# Altium schematic symbol library SCH - MCU - STM32 - ST MICROELECTRONICS STM32F415OGYX WLCSP90.SchLib: 1 symbol
Pins are listed as number, name and electrical type; pins without a type are passive.

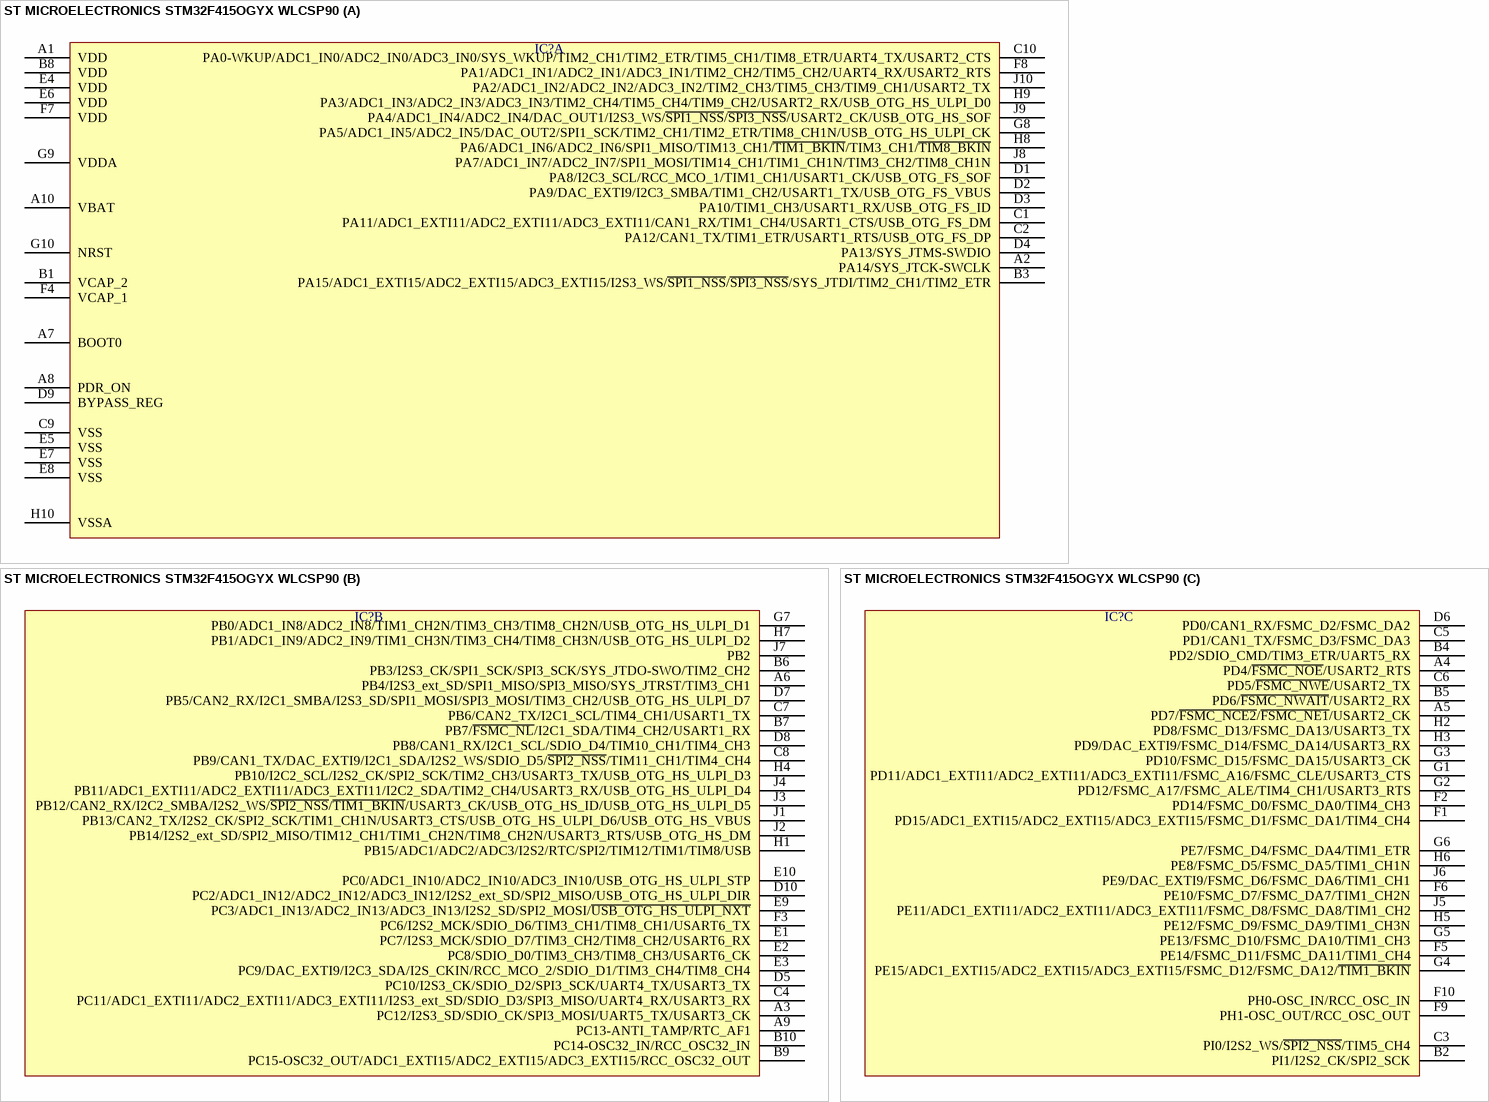
[diagram p0: symbol ST MICROELECTRONICS STM32F415OGYX WLCSP90]

## ST MICROELECTRONICS STM32F415OGYX WLCSP90
designator IC?  (value not drawn)
part A pins: A1 VDD, A2 PA14/SYS_JTCK-SWCLK, A7 BOOT0, A8 PDR_ON, A10 VBAT, B1 VCAP_2, B3 PA15/ADC1_EXTI15/ADC2_EXTI15/ADC3_EXTI15/I2S3_WS/~{SPI1_NSS}/~{SPI3_NSS}/SYS_JTDI/TIM2_CH1/TIM2_ETR, B8 VDD, C1 PA11/ADC1_EXTI11/ADC2_EXTI11/ADC3_EXTI11/CAN1_RX/TIM1_CH4/USART1_CTS/USB_OTG_FS_DM, C2 PA12/CAN1_TX/TIM1_ETR/USART1_RTS/USB_OTG_FS_DP, C9 VSS, C10 PA0-WKUP/ADC1_IN0/ADC2_IN0/ADC3_IN0/SYS_WKUP/TIM2_CH1/TIM2_ETR/TIM5_CH1/TIM8_ETR/UART4_TX/USART2_CTS, D1 PA8/I2C3_SCL/RCC_MCO_1/TIM1_CH1/USART1_CK/USB_OTG_FS_SOF, D2 PA9/DAC_EXTI9/I2C3_SMBA/TIM1_CH2/USART1_TX/USB_OTG_FS_VBUS, D3 PA10/TIM1_CH3/USART1_RX/USB_OTG_FS_ID, D4 PA13/SYS_JTMS-SWDIO, D9 BYPASS_REG, E4 VDD, E5 VSS, E6 VDD, E7 VSS, E8 VSS, F4 VCAP_1, F7 VDD, F8 PA1/ADC1_IN1/ADC2_IN1/ADC3_IN1/TIM2_CH2/TIM5_CH2/UART4_RX/USART2_RTS, G8 PA5/ADC1_IN5/ADC2_IN5/DAC_OUT2/SPI1_SCK/TIM2_CH1/TIM2_ETR/TIM8_CH1N/USB_OTG_HS_ULPI_CK, G9 VDDA, G10 NRST, H8 PA6/ADC1_IN6/ADC2_IN6/SPI1_MISO/TIM13_CH1/~{TIM1_BKIN}/TIM3_CH1/~{TIM8_BKIN}, H9 PA3/ADC1_IN3/ADC2_IN3/ADC3_IN3/TIM2_CH4/TIM5_CH4/TIM9_CH2/USART2_RX/USB_OTG_HS_ULPI_D0, H10 VSSA, J8 PA7/ADC1_IN7/ADC2_IN7/SPI1_MOSI/TIM14_CH1/TIM1_CH1N/TIM3_CH2/TIM8_CH1N, J9 PA4/ADC1_IN4/ADC2_IN4/DAC_OUT1/I2S3_WS/~{SPI1_NSS}/~{SPI3_NSS}/USART2_CK/USB_OTG_HS_SOF, J10 PA2/ADC1_IN2/ADC2_IN2/ADC3_IN2/TIM2_CH3/TIM5_CH3/TIM9_CH1/USART2_TX
part B pins: A3 PC12/I2S3_SD/SDIO_CK/SPI3_MOSI/UART5_TX/USART3_CK, A6 PB4/I2S3_ext_SD/SPI1_MISO/SPI3_MISO/SYS_JTRST/TIM3_CH1, A9 PC13-ANTI_TAMP/RTC_AF1, B6 PB3/I2S3_CK/SPI1_SCK/SPI3_SCK/SYS_JTDO-SWO/TIM2_CH2, B7 PB7/~{FSMC_NL}/I2C1_SDA/TIM4_CH2/USART1_RX, B9 PC15-OSC32_OUT/ADC1_EXTI15/ADC2_EXTI15/ADC3_EXTI15/RCC_OSC32_OUT, B10 PC14-OSC32_IN/RCC_OSC32_IN, C4 PC11/ADC1_EXTI11/ADC2_EXTI11/ADC3_EXTI11/I2S3_ext_SD/SDIO_D3/SPI3_MISO/UART4_RX/USART3_RX, C7 PB6/CAN2_TX/I2C1_SCL/TIM4_CH1/USART1_TX, C8 PB9/CAN1_TX/DAC_EXTI9/I2C1_SDA/I2S2_WS/SDIO_D5/~{SPI2_NSS}/TIM11_CH1/TIM4_CH4, D5 PC10/I2S3_CK/SDIO_D2/SPI3_SCK/UART4_TX/USART3_TX, D7 PB5/CAN2_RX/I2C1_SMBA/I2S3_SD/SPI1_MOSI/SPI3_MOSI/TIM3_CH2/USB_OTG_HS_ULPI_D7, D8 PB8/CAN1_RX/I2C1_SCL/SDIO_D4/TIM10_CH1/TIM4_CH3, D10 PC2/ADC1_IN12/ADC2_IN12/ADC3_IN12/I2S2_ext_SD/SPI2_MISO/USB_OTG_HS_ULPI_DIR, E1 PC7/I2S3_MCK/SDIO_D7/TIM3_CH2/TIM8_CH2/USART6_RX, E2 PC8/SDIO_D0/TIM3_CH3/TIM8_CH3/USART6_CK, E3 PC9/DAC_EXTI9/I2C3_SDA/I2S_CKIN/RCC_MCO_2/SDIO_D1/TIM3_CH4/TIM8_CH4, E9 PC3/ADC1_IN13/ADC2_IN13/ADC3_IN13/I2S2_SD/SPI2_MOSI/~{USB_OTG_HS_ULPI_NXT}, E10 PC0/ADC1_IN10/ADC2_IN10/ADC3_IN10/USB_OTG_HS_ULPI_STP, F3 PC6/I2S2_MCK/SDIO_D6/TIM3_CH1/TIM8_CH1/USART6_TX, G7 PB0/ADC1_IN8/ADC2_IN8/TIM1_CH2N/TIM3_CH3/TIM8_CH2N/USB_OTG_HS_ULPI_D1, H1 PB15/ADC1/ADC2/ADC3/I2S2/RTC/SPI2/TIM12/TIM1/TIM8/USB, H4 PB10/I2C2_SCL/I2S2_CK/SPI2_SCK/TIM2_CH3/USART3_TX/USB_OTG_HS_ULPI_D3, H7 PB1/ADC1_IN9/ADC2_IN9/TIM1_CH3N/TIM3_CH4/TIM8_CH3N/USB_OTG_HS_ULPI_D2, J1 PB13/CAN2_TX/I2S2_CK/SPI2_SCK/TIM1_CH1N/USART3_CTS/USB_OTG_HS_ULPI_D6/USB_OTG_HS_VBUS, J2 PB14/I2S2_ext_SD/SPI2_MISO/TIM12_CH1/TIM1_CH2N/TIM8_CH2N/USART3_RTS/USB_OTG_HS_DM, J3 PB12/CAN2_RX/I2C2_SMBA/I2S2_WS/~{SPI2_NSS}/~{TIM1_BKIN}/USART3_CK/USB_OTG_HS_ID/USB_OTG_HS_ULPI_D5, J4 PB11/ADC1_EXTI11/ADC2_EXTI11/ADC3_EXTI11/I2C2_SDA/TIM2_CH4/USART3_RX/USB_OTG_HS_ULPI_D4, J7 PB2
part C pins: A4 PD4/~{FSMC_NOE}/USART2_RTS, A5 PD7/~{FSMC_NCE2}/~{FSMC_NE1}/USART2_CK, B2 PI1/I2S2_CK/SPI2_SCK, B4 PD2/SDIO_CMD/TIM3_ETR/UART5_RX, B5 PD6/~{FSMC_NWAIT}/USART2_RX, C3 PI0/I2S2_WS/~{SPI2_NSS}/TIM5_CH4, C5 PD1/CAN1_TX/FSMC_D3/FSMC_DA3, C6 PD5/~{FSMC_NWE}/USART2_TX, D6 PD0/CAN1_RX/FSMC_D2/FSMC_DA2, F1 PD15/ADC1_EXTI15/ADC2_EXTI15/ADC3_EXTI15/FSMC_D1/FSMC_DA1/TIM4_CH4, F2 PD14/FSMC_D0/FSMC_DA0/TIM4_CH3, F5 PE14/FSMC_D11/FSMC_DA11/TIM1_CH4, F6 PE10/FSMC_D7/FSMC_DA7/TIM1_CH2N, F9 PH1-OSC_OUT/RCC_OSC_OUT, F10 PH0-OSC_IN/RCC_OSC_IN, G1 PD11/ADC1_EXTI11/ADC2_EXTI11/ADC3_EXTI11/FSMC_A16/FSMC_CLE/USART3_CTS, G2 PD12/FSMC_A17/FSMC_ALE/TIM4_CH1/USART3_RTS, G3 PD10/FSMC_D15/FSMC_DA15/USART3_CK, G4 PE15/ADC1_EXTI15/ADC2_EXTI15/ADC3_EXTI15/FSMC_D12/FSMC_DA12/~{TIM1_BKIN}, G5 PE13/FSMC_D10/FSMC_DA10/TIM1_CH3, G6 PE7/FSMC_D4/FSMC_DA4/TIM1_ETR, H2 PD8/FSMC_D13/FSMC_DA13/USART3_TX, H3 PD9/DAC_EXTI9/FSMC_D14/FSMC_DA14/USART3_RX, H5 PE12/FSMC_D9/FSMC_DA9/TIM1_CH3N, H6 PE8/FSMC_D5/FSMC_DA5/TIM1_CH1N, J5 PE11/ADC1_EXTI11/ADC2_EXTI11/ADC3_EXTI11/FSMC_D8/FSMC_DA8/TIM1_CH2, J6 PE9/DAC_EXTI9/FSMC_D6/FSMC_DA6/TIM1_CH1